# Altium integrated library lib_cnk.IntLib: 1 symbol
Pins are listed as number, name and electrical type; pins without a type are passive.

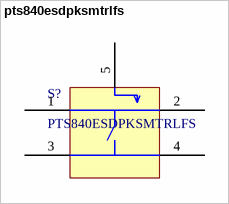
[diagram p0: symbol pts840esdpksmtrlfs]

## pts840esdpksmtrlfs
designator S?, comment PTS840ESDPKSMTRLFS
Microminiature SMT Side Actuated tactile switch; ComponentLink1Description: datasheet; ComponentLink1URL: https://www.mouser.se/datasheet/2/60/pts840-1280343.pdf
footprint PCBComponent_1
pins: 1, 2, 3, 4, 5